# EAGLE library part MC33071ADG (library On Semiconductor)
Single Supply 3.0 V to 44 V Operational Amplifiers
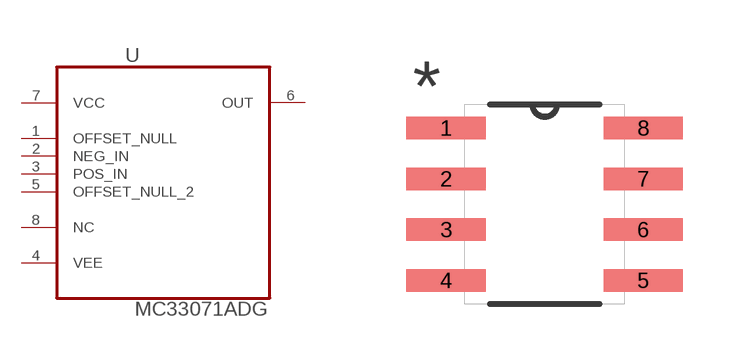
[diagram p328: symbol with the pads of SOIC127P600X175-8N; footprint SOIC127P600X175-8N]

Designator prefix U

## MC33071ADG (MPN: MC33071ADG; OC_FARNELL: 1155801; OC_NEWARK: 98H0669; PACKAGE: SOIC-8; SUPPLIER: Onsemiconductor)  [SOIC127P600X175-8N]
1  OFFSET_NULL  in
2  NEG_IN  in
3  POS_IN  in
4  VEE  pwr
5  OFFSET_NULL_2  in
6  OUT  out
7  VCC  pwr
8  NC  nc

## Footprint SOIC127P600X175-8N (pad centres in mm)
smd 1.981 x 0.559: 1 -2.464,1.905; 2 -2.464,0.635; 3 -2.464,-0.635; 4 -2.464,-1.905; 5 2.464,-1.905; 6 2.464,-0.635; 7 2.464,0.635; 8 2.464,1.905